# EAGLE library part MCP73213-A6SI/MF (library DFN300X300X100-11N)
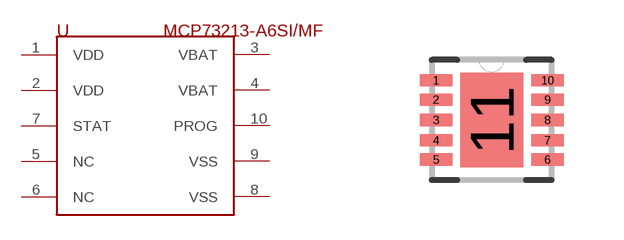
[diagram p0: symbol with the pads of DFN300X300X100-11N; footprint DFN300X300X100-11N]

Designator prefix U

## MCP73213-A6SI/MF  [DFN300X300X100-11N]
1  VDD
2  VDD
3  VBAT
4  VBAT
5  NC
6  NC
7  STAT
8  VSS
9  VSS
10  PROG

## Footprint DFN300X300X100-11N (pad centres in mm)
smd 0.813 x 0.305: 1 -1.397,0.991; 2 -1.397,0.508; 3 -1.397,0; 4 -1.397,-0.508; 5 -1.397,-0.991; 6 1.397,-0.991; 7 1.397,-0.508; 8 1.397,0; 9 1.397,0.508; 10 1.397,0.991
smd 1.575 x 2.362: 11 0,0